# Altium footprint library DEP_REVC.PcbLib: 7 footprints
Each footprint in its own frame and in the unit in brackets; x right, y up, seen from the top. Pads: shape width x height; smd on the part's side, far side on the other; paste and mask are expansions set on the pad; w line width, h text height; cw(c..) or ccw(c..) is an arc to the next point about the centre after c.
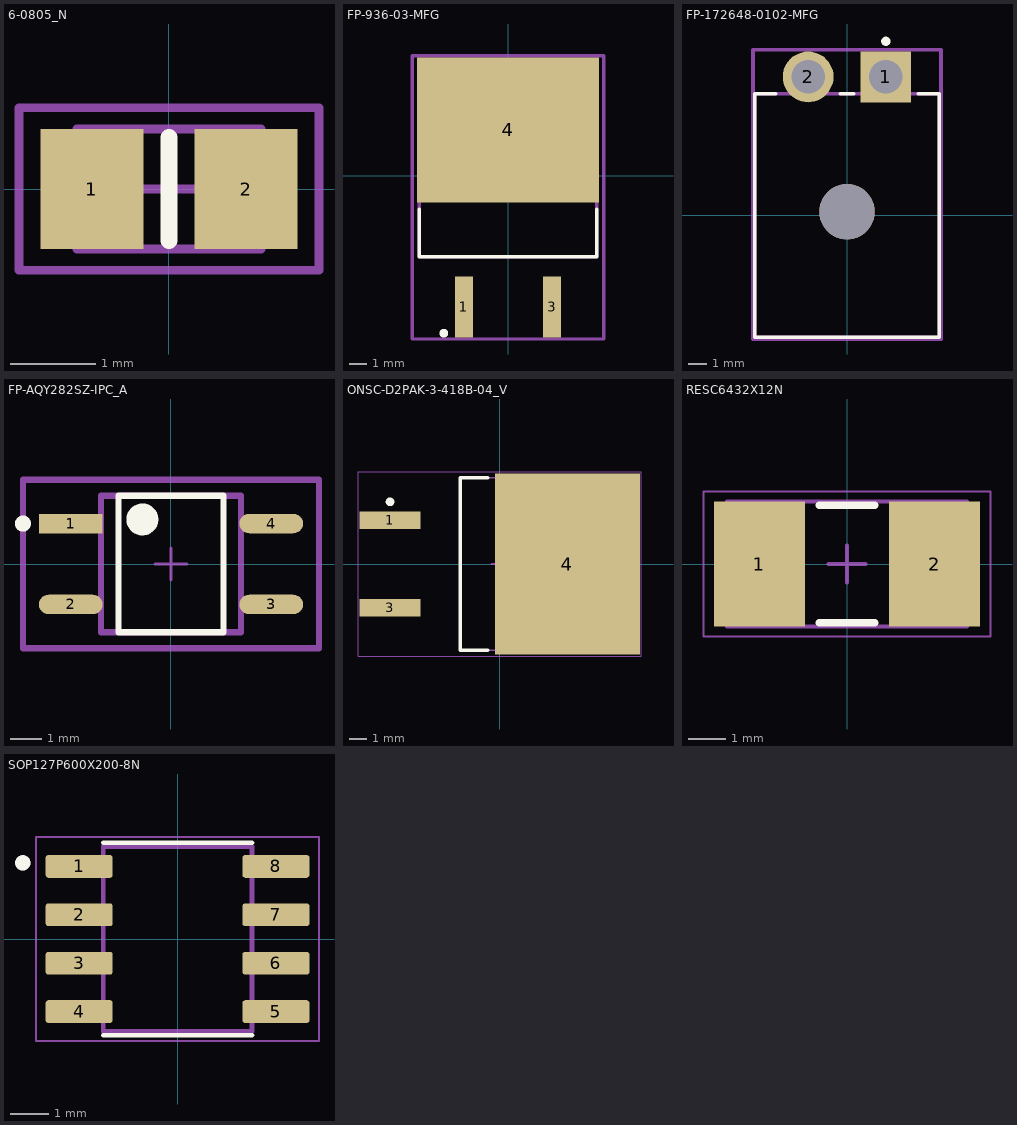
[diagram p0: the footprints below, top view; thin cyan lines are the x and y axes]

## 6-0805_N [mm] "Chip Resistor, Body 2.0x1.2mm, IPC Medium Density"
height 0.7
pads (2):
  rect 1.2x1.4 smd: 1(-0.9,0) 2(0.9,0)
Top Overlay:
  lines w0.2: 0,-0.6 0,0.6
Top 3D Body:
  lines w0.1: -1.075,-0.7 -1.075,0.7 1.075,0.7 1.075,-0.7 -1.075,-0.7
Top Courtyard:
  lines w0.1: -0.5,0 0.5,0 ; 0,-0.5 0,0.5 ; -1.75,-0.95 -1.75,0.95 1.75,0.95 1.75,-0.95 -1.75,-0.95
3D body: height 0.7, standoff 0, extent -1.075,-0.7 1.075,0.7

## FP-936-03-MFG [mm]
height 0.4
pads (3):
  rect 1.016x3.504 smd paste+0 mask+0: 1(-2.54,-7.558) 3(2.54,-7.558)
  rect 10.49x8.38 smd paste+0 mask+0: 4(0,2.655)
Top Overlay:
  circle w0.25: c-3.7,-9.075 r0.125
  lines w0.2: -5.118,-1.91 -5.118,-4.674 5.118,-4.674 5.118,-1.91
Top Assembly:
  lines w0.2: -5.536,-9.41 5.536,-9.41 5.536,6.945 -5.536,6.945 -5.536,-9.41
  text ".Designator" at 0,-1.233 h1
Top 3D Body:
  lines w0.2: -5.118,-4.674 5.118,-4.674 5.118,4.674 -5.118,4.674 -5.118,-4.674
Top Courtyard:
  lines w0.2: -5.536,-9.41 5.536,-9.41 5.536,6.945 -5.536,6.945 -5.536,-9.41
Top Component Center:
  lines w0.1: -0.5,0 0.5,0 ; 0,-0.5 0,0.5
3D body "IC_ON_Semiconductor_LM317BD2TR4G_eec.STEP": height 0.25, standoff 0, extent -5.536,-9.41 5.536,6.945

## FP-172648-0102-MFG [mm]
pads (3):
  rect 2.75x2.75 hole 1.8 paste-1000 mask+0: 1(2.1,7.5)
  round 2.75 hole 1.8 paste-1000 mask+0: 2(-2.1,7.5)
  round 3 hole 3 unplated paste-1000 mask+0: ""(0,0.2)
Top Overlay:
  circle w0.25: c2.1,9.425 r0.125
  circle w0.25: c-1.95,7.1 r0.125
  lines w0.2: -3.85,6.59 -4.99,6.59 -4.99,-6.59 4.99,-6.59 4.99,6.59 3.85,6.59 ; -0.35,6.59 0.35,6.59
Top Assembly:
  lines w0.2: -5.09,-6.69 -5.09,8.975 5.09,8.975 5.09,-6.69 -5.09,-6.69
  text ".Designator" at 0,1.142 h1
Top 3D Body:
  lines w0.2: -4.99,-6.59 -4.99,6.59 4.99,6.59 4.99,-6.59 -4.99,-6.59
Top Courtyard:
  lines w0.2: -5.09,-6.69 -5.09,8.975 5.09,8.975 5.09,-6.69 -5.09,-6.69
Top Component Center:
  lines w0.1: -0.5,0 0.5,0 ; 0,-0.5 0,0.5
3D body "Conn_Molex_172648-0102_eec.STEP": height 0.25, standoff 0, extent -5.09,-6.69 5.09,8.975

## FP-AQY282SZ-IPC_A [mm]
height 0.4
pads (4):
  rect 2.003x0.612 smd paste+0 mask+0: 1(-3.15,1.27)
  rrect100% 2.003x0.612 smd paste+0 mask+0: 2(-3.15,-1.27) 3(3.15,-1.27) 4(3.15,1.27)
Top Overlay:
  circle w0.5: c-0.899,1.4 r0.25
  circle w0.25: c-4.652,1.27 r0.125
  lines w0.2: -1.649,-2.15 1.649,-2.15 1.649,2.15 -1.649,2.15 -1.649,-2.15
Top Assembly:
  lines w0.2: -4.652,-2.65 4.652,-2.65 4.652,2.65 -4.652,2.65 -4.652,-2.65
  text ".Designator" at 0,0.188 h1
Top 3D Body:
  lines w0.2: -2.2,-2.15 2.2,-2.15 2.2,2.15 -2.2,2.15 -2.2,-2.15
Top Courtyard:
  lines w0.2: -4.652,-2.65 4.652,-2.65 4.652,2.65 -4.652,2.65 -4.652,-2.65
Top Component Center:
  lines w0.1: -0.5,0 0.5,0 ; 0,-0.5 0,0.5
3D body "Relay_Panasonic_AQY282SZ_eec.STEP": height 0.25, standoff 0, extent -4.652,-2.65 4.652,2.65

## ONSC-D2PAK-3-418B-04_V [mm] "DPAK, 3-Leads, Body 9.97x9.145mm, Pitch 2.54mm"
height 4.83
pads (3):
  rect 3.504x1.016 smd: 1(-6.35,2.54) 3(-6.35,-2.54)
  rect 8.38x10.49 smd: 4(3.9,0)
Top Overlay:
  circle w0.25: c-6.35,3.598 r0.125
  lines w0.2: -0.69,-4.985 -2.3,-4.985 -2.3,4.985 -0.69,4.985
Top 3D Body:
  lines w0.1: -2.3,-4.985 -2.3,4.985 6.845,4.985 6.845,-4.985 -2.3,-4.985
Top Courtyard:
  lines w0.05: -8.202,-5.345 -8.202,5.345 8.19,5.345 8.19,-5.345 -8.202,-5.345
  lines w0.1: -0.5,0 0.5,0 ; 0,-0.5 0,0.5
3D body: height 4.83, standoff 0, extent -2.3,-4.985 6.845,4.985

## RESC6432X12N [mm] "Chip Resistor, 2-Leads, Body 6.35x3.20mm, IPC Medium Density"
height 1.2
pads (2):
  rect 2.45x3.35 smd: 1(-2.35,0) 2(2.35,0)
Top Overlay:
  lines w0.2: -0.75,-1.575 0.75,-1.575 ; -0.75,1.575 0.75,1.575
Top 3D Body:
  lines w0.1: -3.225,-1.675 -3.225,1.675 3.225,1.675 3.225,-1.675 -3.225,-1.675
Top Courtyard:
  lines w0.05: -3.85,-1.95 -3.85,1.95 3.85,1.95 3.85,-1.95 -3.85,-1.95
  lines w0.1: -0.5,0 0.5,0 ; 0,-0.5 0,0.5
3D body: height 1.2, standoff 0, extent -1.425,-1.675 1.425,1.675
3D body: height 1.2, standoff 0, extent -3.225,-1.675 -1.425,1.675
3D body: height 1.2, standoff 0, extent 1.425,-1.675 3.225,1.675

## SOP127P600X200-8N [mm]
height 0.4
pads (8):
  rrect25% 1.76x0.6 smd: 1(-2.58,1.905) 2(-2.58,0.635) 3(-2.58,-0.635) 4(-2.58,-1.905) 5(2.58,-1.905) 6(2.58,-0.635) 7(2.58,0.635) 8(2.58,1.905)
Top Overlay:
  circle w0.2: c-4.059,1.997 r0.1
  lines w0.127: -1.95,-2.525 1.95,-2.525 ; -1.95,2.525 1.95,2.525
Top 3D Body:
  circle w0.2: c-4.059,1.997 r0.1
  lines w0.127: -1.95,-2.425 -1.95,2.425 1.95,2.425 1.95,-2.425 -1.95,-2.425
Top Courtyard:
  lines w0.05: -3.71,-2.675 -3.71,2.675 3.71,2.675 3.71,-2.675 -3.71,-2.675
3D body "step_temp.STEP": height 2.1, standoff 0, extent -3,-2.425 3,2.425